# EAGLE library part USD-CARD-HOLDER (library pierre_vv)
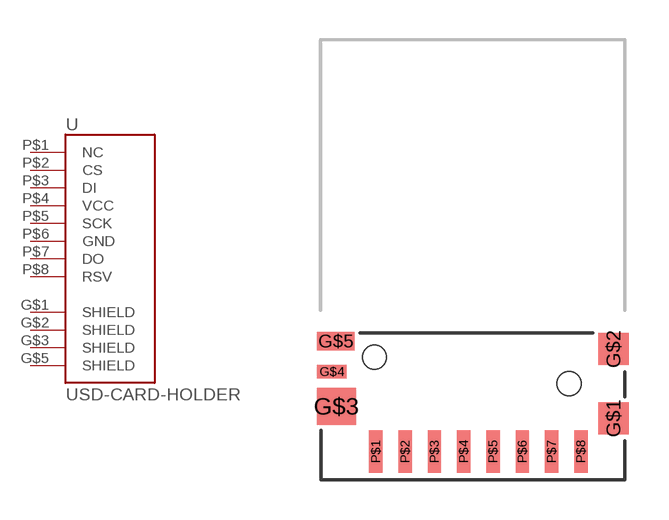
[diagram p0: symbol with the pads of MICRO-SD-MOLEX-47579-001; footprint MICRO-SD-MOLEX-47579-001]

Designator prefix -

## USD-CARD-HOLDER  [MICRO-SD-MOLEX-47579-001]
G$1  SHIELD
G$2  SHIELD
G$3  SHIELD
G$5  SHIELD
P$1  NC
P$2  CS
P$3  DI
P$4  VCC
P$5  SCK
P$6  GND
P$7  DO
P$8  RSV

## Footprint MICRO-SD-MOLEX-47579-001 (pad centres in mm)
smd 1.15 x 1.2: G$1 -0.425,2.3; G$2 -0.425,4.9
smd 1.45 x 1.4: G$3 -10.825,2.75
smd 1.1 x 0.5: G$4 -11,4.05
smd 1.4 x 0.7: G$5 -10.85,5.2
smd 0.5 x 1.6: P$1 -9.35,1.05; P$2 -8.25,1.05; P$3 -7.15,1.05; P$4 -6.05,1.05; P$5 -4.95,1.05; P$6 -3.85,1.05; P$7 -2.75,1.05; P$8 -1.65,1.05
hole 0.9 at -9.4,4.6
hole 0.9 at -2.1,3.6